# EAGLE library part TDA7375 (library ST-TDA7375)
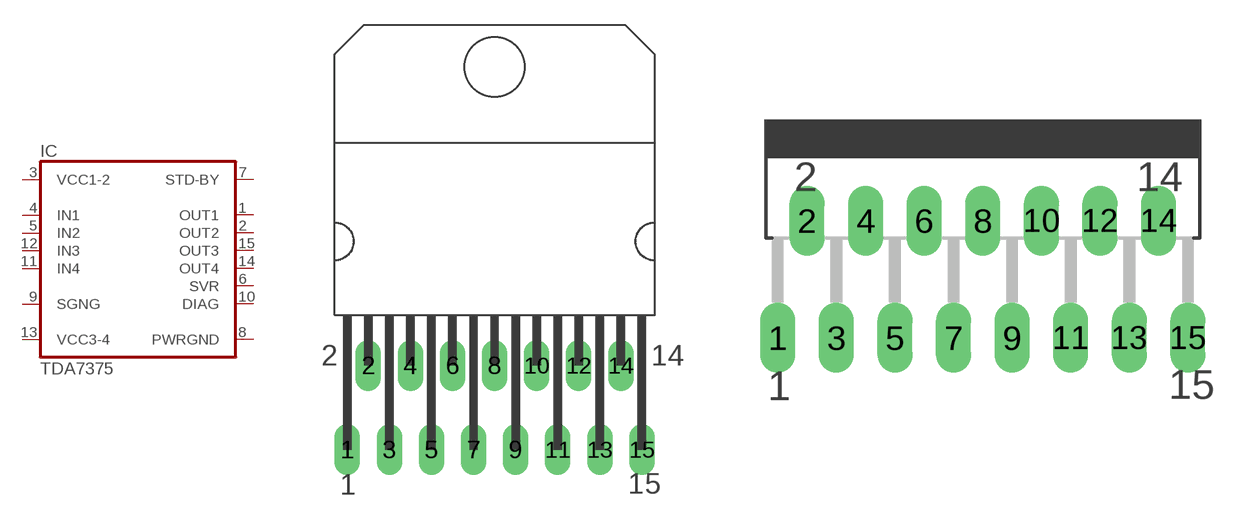
[diagram p0: symbol with the pads of MULTIWATT-15H; footprints MULTIWATT-15H, MULTIWATT-15V]

Designator prefix IC

## TDA7375H  [MULTIWATT-15H]
1  OUT1  out
2  OUT2  out
3  VCC1-2  pwr
4  IN1  in
5  IN2  in
6  SVR  pas
7  STD-BY  in
8  PWRGND  pwr
9  SGNG  pwr
10  DIAG  pas
11  IN4  in
12  IN3  in
13  VCC3-4  pwr
14  OUT4  out
15  OUT3  out

## TDA7375V  [MULTIWATT-15V]
Pads as for MULTIWATT-15H

## Footprint MULTIWATT-15H (pad centres in mm)
drill 1.016 long: 1 -8.89,-5.08; 2 -7.62,0; 3 -6.35,-5.08; 4 -5.08,0; 5 -3.81,-5.08; 6 -2.54,0; 7 -1.27,-5.08; 8 0,0; 9 1.27,-5.08; 10 2.54,0; 11 3.81,-5.08; 12 5.08,0; 13 6.35,-5.08; 14 7.62,0; 15 8.89,-5.08

## Footprint MULTIWATT-15V (pad centres in mm)
drill 1.016 long: 1 -8.89,-7.62; 2 -7.62,-2.54; 3 -6.35,-7.62; 4 -5.08,-2.54; 5 -3.81,-7.62; 6 -2.54,-2.54; 7 -1.27,-7.62; 8 0,-2.54; 9 1.27,-7.62; 10 2.54,-2.54; 11 3.81,-7.62; 12 5.08,-2.54; 13 6.35,-7.62; 14 7.62,-2.54; 15 8.89,-7.62